# EAGLE library part MCP2551T-I/SN (library RoboJackets-ICs)
High Speed CAN Transceiver Datasheet <https://ww1.microchip.com/downloads/en/DeviceDoc/20001667G.pdf>
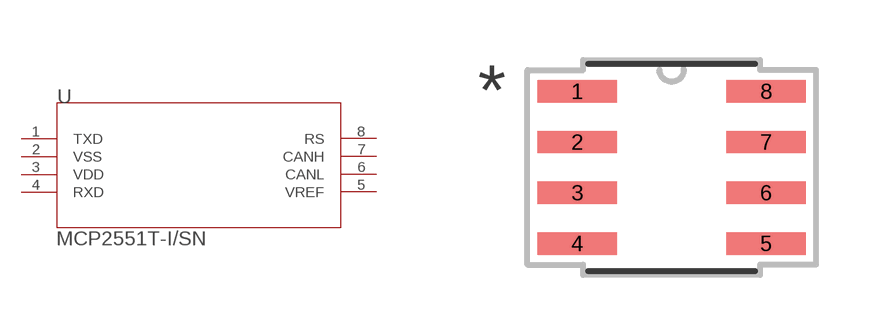
[diagram p18: symbol with the pads of SOIC8-N_MC; footprint SOIC8-N_MC]

Designator prefix U

## MCP2551T-I/SN (DKPN: MCP2551T-I/SNCT-ND)  [SOIC8-N_MC]
1  TXD  pas
2  VSS  pas
3  VDD  pas
4  RXD  pas
5  VREF  pas
6  CANL  pas
7  CANH  pas
8  RS  pas

## Footprint SOIC8-N_MC (pad centres in mm)
smd 1.981 x 0.559: 1 -2.362,1.905; 2 -2.362,0.635; 3 -2.362,-0.635; 4 -2.362,-1.905; 5 2.362,-1.905; 6 2.362,-0.635; 7 2.362,0.635; 8 2.362,1.905